# Altium schematic symbol library RALTRON.SchLib: 1 symbol
Pins are listed as number, name and electrical type; pins without a type are passive.

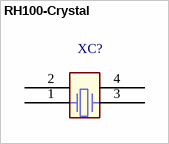
[diagram p0: symbol RH100-Crystal]

## RH100-Crystal
designator XC?
pins: 1, 2, 3, 4